# EAGLE library part AT42QT1011 (library _RoweTel)
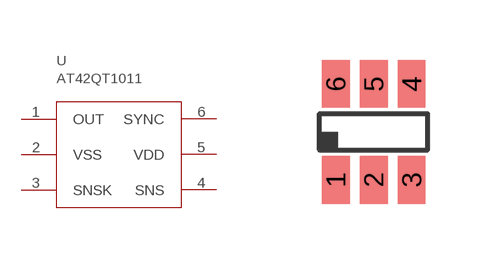
[diagram p77: symbol with the pads of SOT23-6; footprint SOT23-6]

Designator prefix U

## AT42QT1011  [SOT23-6]
1  OUT
2  VSS
3  SNSK
4  SNS
5  VDD
6  SYNC

## Footprint SOT23-6 (pad centres in mm)
smd 0.7 x 1.2: 1 -0.95,-1.2; 2 0,-1.2; 3 0.95,-1.2; 4 0.95,1.2; 5 0,1.2; 6 -0.95,1.2